# Altium integrated library Linear Technology Power Management Switching Regulator LTC1174-LTC3901.IntLib: 2647 symbols (part 12 of 364)
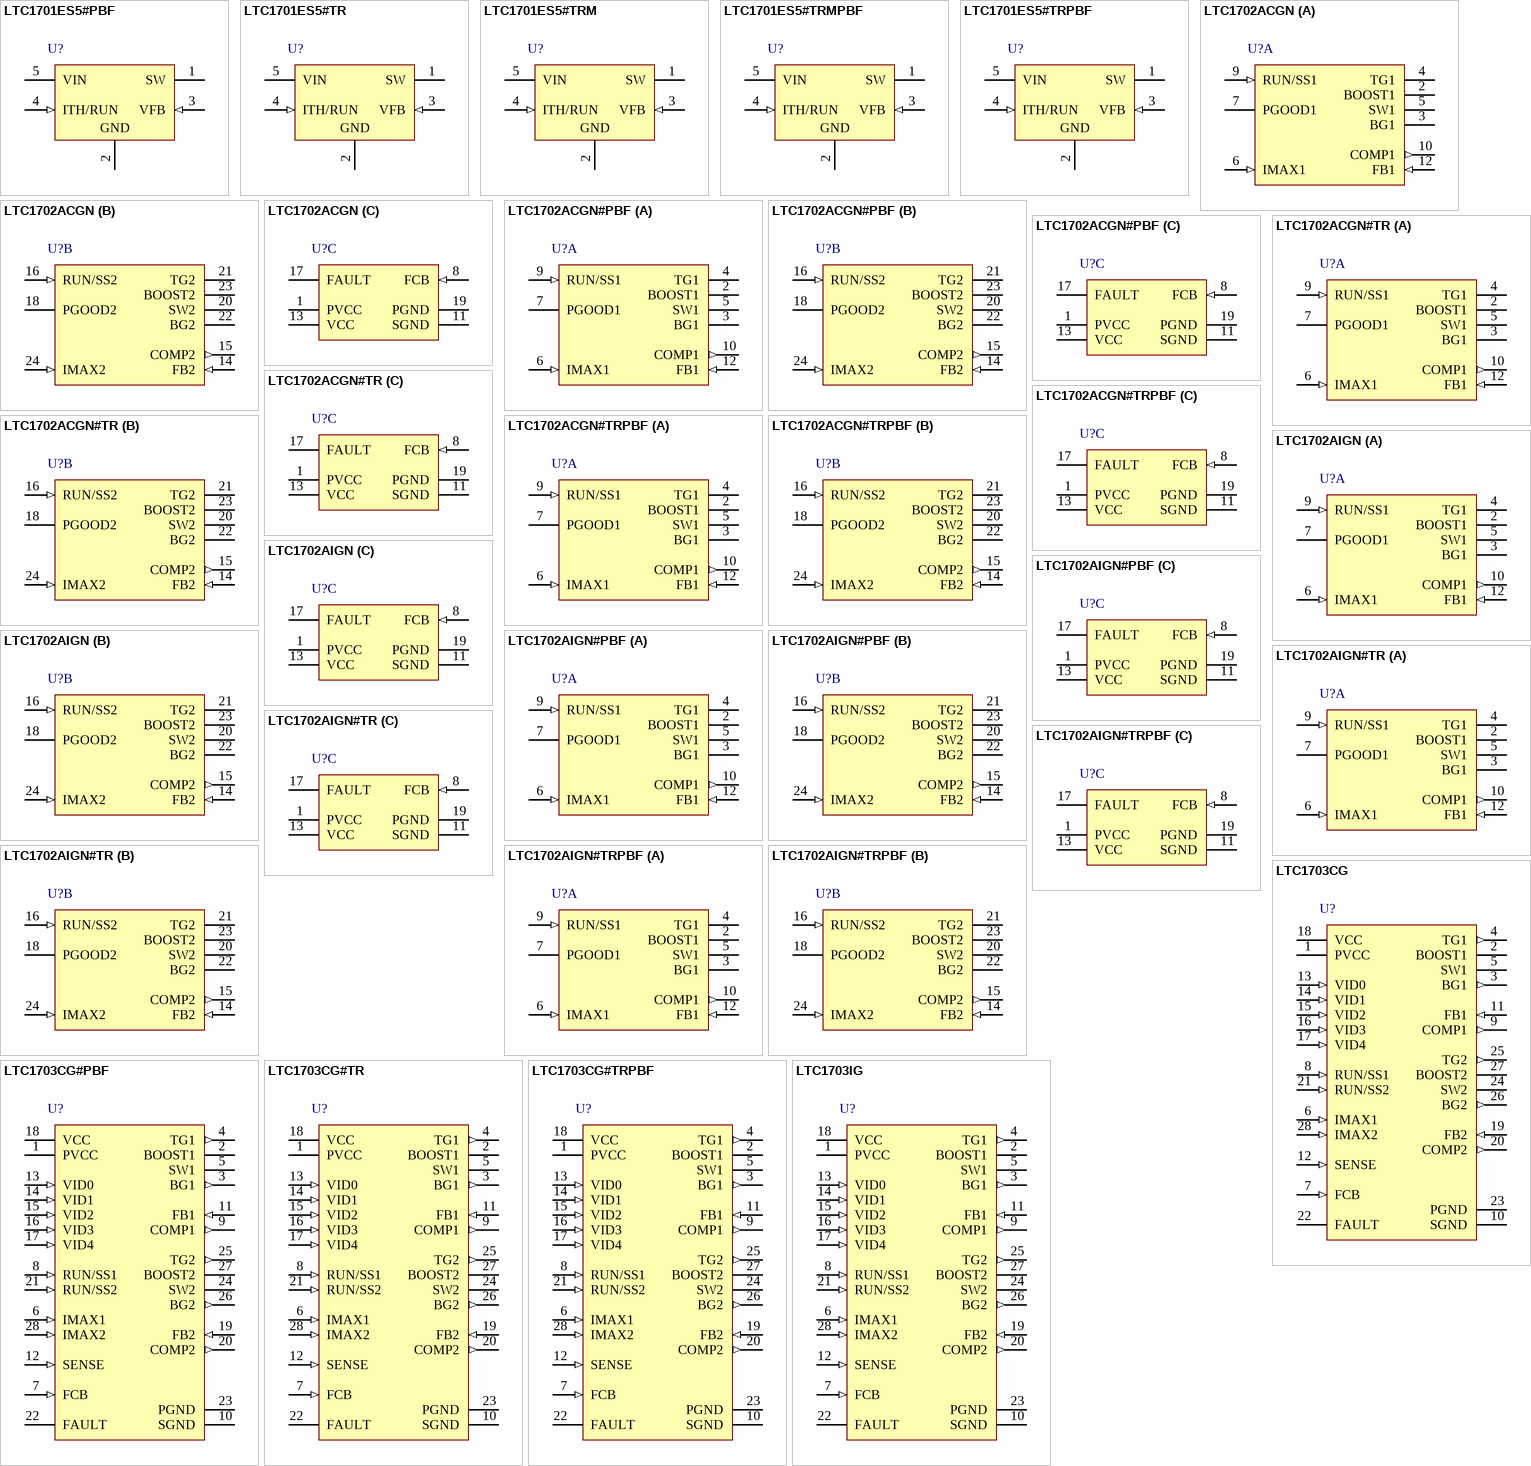
[diagram p221: symbols LTC1701ES5#PBF to LTC1703IG]

## LTC1702ACGN
designator U?
Dual 550 kHz Synchronous 2-Phase Switching Regulator Controller, 24-pin SOP (GN-24), 0 to 70 degC; Manufacturer: Linear Technology; PartNumber: LTC1702ACGN; Number of Outputs: 2; DatasheetVersion: Rev. A; PackageVersion: Rev. B, 03/2012; PackageReference: GN24; PackageDescription: 24-Pin Plastic SSOP , Body 8.5 x 3.9 mm, Pitch 0.635 mm; Supplier 1: Digi-Key; Supplier Part Number 1: LTC1702ACGN-ND; RoHS: FALSE; Mounting Technology: Surface Mount; ComponentLink1Description: Manufacturer URL; ComponentLink1URL: http://www.linear.com/; ComponentLink2Description: Datasheet; ComponentLink2URL: http://cds.linear.com/docs/en/datasheet/1702afa.pdf; ComponentLink3Description: Package Specification; ComponentLink3URL: http://cds.linear.com/docs/en/packaging/05081641_B_GN24.pdf
footprint LT-GN-24_N (SOP, 24-Leads, Body 8.7x4mm, Pitch 0.635mm, IPC Medium Density)
footprint LT-GN-24_L (SOP, 24-Leads, Body 8.7x4mm, Pitch 0.635mm, IPC High Density)
footprint LT-GN-24_M (SOP, 24-Leads, Body 8.7x4mm, Pitch 0.635mm, IPC Low Density)
part A pins: 2 BOOST1 "Controller 1 Top Gate Driver Supply. The BOOST1 pin supplies power to the floating TG1 driver. BOOST1 should be bypassed to SW1 with a 1uF capacitor. An additional Schottky diode from VIN to BOOST1 pin will create a complete (See Datasheet)", 3 BG1 (hiz) "Controller 1 Bottom Gate Drive. The BG1 pin drives the gate of the bottom N-channel synchronous switch MOSFET, QB1. BG1 is designed to drive up to 10,000pF of gate capacitance directly. If RUN/SS1 goes low, BG1 will go low, (See Datasheet)", 4 TG1 (hiz) "Controller 1 Top Gate Drive. The TG1 pin drives the gate of the top N-channel MOSFET, QT1. The TG1 driver draws power from the BOOST1 pin and returns to the SW1 pin, providing true floating drive to QT1. TG1 is designed to (See Datasheet)", 5 SW1 "Controller 1 Switching Node. SW1 should be connected to the switching node of converter 1. The TG1 driver ground returns to SW1, providing floating gate drive to the top N-channel MOSFET switch, QT1. The voltage at SW1 is (See Datasheet)", 6 IMAX1 (in) "Controller 1 Current Limit Set. The IMAX1 pin sets the current limit comparator threshold for controller 1. If the voltage drop across the bottom MOSFET, QB1, exceeds the magnitude of the voltage at IMAX1, controller 1 will (See Datasheet)", 7 PGOOD1 (hiz) "Controller 1 Power Good. PGOOD1 is an open-drain logic output. PGOOD1 will pull low whenever FB1 falls 5% below its programmed value. When RUN/SS1 is low (side 1 shut down), PGOOD1 will go high.", 9 RUN/SS1 (in) "Controller 1 Run/Soft-start. Pulling RUN/SS1 to SGND will disable controller 1 and turn off both of its external MOSFET switches. Pulling both RUN/SS pins down will shut down the entire LTC1702A, dropping the quiescent (See Datasheet)", 10 COMP1 (out) "Controller 1 Loop Compensation. The COMP1 pin is connected directly to the output of the first controller’s error amplifier and the input to the PWM comparator. An RC network is used at the COMP1 pin to compensate th(See Datasheet)", 12 FB1 (in) "Controller 1 Feedback Input. FB1 should be connected through a resistor network to VOUT1 to set the output voltage. The loop compensation network for controller 1 also connects to FB1."
part B pins: 14 FB2 (in) "Controller 2 Feedback Input. See FB1.", 15 COMP2 (out) "Controller 2 Loop Compensation. See COMP1.", 16 RUN/SS2 (in) "Controller 2 Run/Soft-start. See RUN/ SS1.", 18 PGOOD2 (hiz) "Controller 2 Power Good. See PGOOD1.", 20 SW2 "Controller 2 Switching Node. See SW1.", 21 TG2 (hiz) "Controller 2 Top Gate Drive. See TG1.", 22 BG2 (hiz) "Controller 2 Bottom Gate Drive. See BG1.", 23 BOOST2 "Controller 2 Top Gate Driver Supply. See BOOST1.", 24 IMAX2 (in) "Controller 2 Current Limit Set. See IMAX1."
part C pins: 1 PVCC (power) "Driver Power Supply Input. PVCC provides power to the two BGn output drivers. PVCC must be connected to a voltage high enough to fully turn on the external MOSFETs QB1 and QB2. PVCC should generally be connected directly to (See Datasheet)", 8 FCB (in) "Force Continuous Bar. The FCB pin forces both converters to maintain continuous synchronous operation regardless of load when the voltage at FCB drops below 0.8V. FCB is normally tied to VCC. To force continuous operation, (See Datasheet)", 11 SGND (power) "Signal Ground. All internal low power circuitry returns to the SGND pin. Connect to a low impedance ground, separated from the PGND node. All feedback, compensation and soft-start connections should return to SGND. SGND and (See Datasheet)", 13 VCC (power) "Power Supply Input. All internal circuits except the output drivers are powered from this pin. VCC should be connected to a low noise power supply voltage between 3V and 7V and should be bypassed to SGND with at least a 1uF (See Datasheet)", 17 FAULT (hiz) "Output Overvoltage Fault (Latched). The FAULT pin is an open-drain output with an internal 10uA pull-up. If either regulated output voltage rises more than 15% above its programmed value for more than 25us, the FAULT output (See Datasheet)", 19 PGND (power) "Power Ground. The BGn drivers return to this pin. Connect PGND to a high current ground node in close proximity to the sources of external MOSFETs, QB1 and QB2, and the VIN and VOUT bypass capacitors."

## LTC1702ACGN#PBF
designator U?
Dual 550 kHz Synchronous 2-Phase Switching Regulator Controller, 24-pin SOP (GN-24), 0 to 70 degC, Pb-Free; Manufacturer: Linear Technology; PartNumber: LTC1702ACGN#PBF; Number of Outputs: 2; DatasheetVersion: Rev. A; PackageVersion: Rev. B, 03/2012; PackageReference: GN24; PackageDescription: 24-Pin Plastic SSOP , Body 8.5 x 3.9 mm, Pitch 0.635 mm; Supplier 1: Digi-Key; Supplier Part Number 1: LTC1702ACGN#PBF-ND; RoHS: TRUE; Mounting Technology: Surface Mount; ComponentLink1Description: Manufacturer URL; ComponentLink1URL: http://www.linear.com/; ComponentLink2Description: Datasheet; ComponentLink2URL: http://cds.linear.com/docs/en/datasheet/1702afa.pdf; ComponentLink3Description: Package Specification; ComponentLink3URL: http://cds.linear.com/docs/en/packaging/05081641_B_GN24.pdf
footprint LT-GN-24_N (SOP, 24-Leads, Body 8.7x4mm, Pitch 0.635mm, IPC Medium Density)
footprint LT-GN-24_L (SOP, 24-Leads, Body 8.7x4mm, Pitch 0.635mm, IPC High Density)
footprint LT-GN-24_M (SOP, 24-Leads, Body 8.7x4mm, Pitch 0.635mm, IPC Low Density)
part A pins: 2 BOOST1 "Controller 1 Top Gate Driver Supply. The BOOST1 pin supplies power to the floating TG1 driver. BOOST1 should be bypassed to SW1 with a 1uF capacitor. An additional Schottky diode from VIN to BOOST1 pin will create a complete (See Datasheet)", 3 BG1 (hiz) "Controller 1 Bottom Gate Drive. The BG1 pin drives the gate of the bottom N-channel synchronous switch MOSFET, QB1. BG1 is designed to drive up to 10,000pF of gate capacitance directly. If RUN/SS1 goes low, BG1 will go low, (See Datasheet)", 4 TG1 (hiz) "Controller 1 Top Gate Drive. The TG1 pin drives the gate of the top N-channel MOSFET, QT1. The TG1 driver draws power from the BOOST1 pin and returns to the SW1 pin, providing true floating drive to QT1. TG1 is designed to (See Datasheet)", 5 SW1 "Controller 1 Switching Node. SW1 should be connected to the switching node of converter 1. The TG1 driver ground returns to SW1, providing floating gate drive to the top N-channel MOSFET switch, QT1. The voltage at SW1 is (See Datasheet)", 6 IMAX1 (in) "Controller 1 Current Limit Set. The IMAX1 pin sets the current limit comparator threshold for controller 1. If the voltage drop across the bottom MOSFET, QB1, exceeds the magnitude of the voltage at IMAX1, controller 1 will (See Datasheet)", 7 PGOOD1 (hiz) "Controller 1 Power Good. PGOOD1 is an open-drain logic output. PGOOD1 will pull low whenever FB1 falls 5% below its programmed value. When RUN/SS1 is low (side 1 shut down), PGOOD1 will go high.", 9 RUN/SS1 (in) "Controller 1 Run/Soft-start. Pulling RUN/SS1 to SGND will disable controller 1 and turn off both of its external MOSFET switches. Pulling both RUN/SS pins down will shut down the entire LTC1702A, dropping the quiescent (See Datasheet)", 10 COMP1 (out) "Controller 1 Loop Compensation. The COMP1 pin is connected directly to the output of the first controller’s error amplifier and the input to the PWM comparator. An RC network is used at the COMP1 pin to compensate th(See Datasheet)", 12 FB1 (in) "Controller 1 Feedback Input. FB1 should be connected through a resistor network to VOUT1 to set the output voltage. The loop compensation network for controller 1 also connects to FB1."
part B pins: 14 FB2 (in) "Controller 2 Feedback Input. See FB1.", 15 COMP2 (out) "Controller 2 Loop Compensation. See COMP1.", 16 RUN/SS2 (in) "Controller 2 Run/Soft-start. See RUN/ SS1.", 18 PGOOD2 (hiz) "Controller 2 Power Good. See PGOOD1.", 20 SW2 "Controller 2 Switching Node. See SW1.", 21 TG2 (hiz) "Controller 2 Top Gate Drive. See TG1.", 22 BG2 (hiz) "Controller 2 Bottom Gate Drive. See BG1.", 23 BOOST2 "Controller 2 Top Gate Driver Supply. See BOOST1.", 24 IMAX2 (in) "Controller 2 Current Limit Set. See IMAX1."
part C pins: 1 PVCC (power) "Driver Power Supply Input. PVCC provides power to the two BGn output drivers. PVCC must be connected to a voltage high enough to fully turn on the external MOSFETs QB1 and QB2. PVCC should generally be connected directly to (See Datasheet)", 8 FCB (in) "Force Continuous Bar. The FCB pin forces both converters to maintain continuous synchronous operation regardless of load when the voltage at FCB drops below 0.8V. FCB is normally tied to VCC. To force continuous operation, (See Datasheet)", 11 SGND (power) "Signal Ground. All internal low power circuitry returns to the SGND pin. Connect to a low impedance ground, separated from the PGND node. All feedback, compensation and soft-start connections should return to SGND. SGND and (See Datasheet)", 13 VCC (power) "Power Supply Input. All internal circuits except the output drivers are powered from this pin. VCC should be connected to a low noise power supply voltage between 3V and 7V and should be bypassed to SGND with at least a 1uF (See Datasheet)", 17 FAULT (hiz) "Output Overvoltage Fault (Latched). The FAULT pin is an open-drain output with an internal 10uA pull-up. If either regulated output voltage rises more than 15% above its programmed value for more than 25us, the FAULT output (See Datasheet)", 19 PGND (power) "Power Ground. The BGn drivers return to this pin. Connect PGND to a high current ground node in close proximity to the sources of external MOSFETs, QB1 and QB2, and the VIN and VOUT bypass capacitors."